# Altium footprint library Main board for stk  modify202003031.PcbLib: 70 footprints (part 1 of 5)
Each footprint in its own frame and in the unit in brackets; x right, y up, seen from the top. Pads: shape width x height; smd on the part's side, far side on the other; paste and mask are expansions set on the pad; w line width, h text height; cw(c..) or ccw(c..) is an arc to the next point about the centre after c.
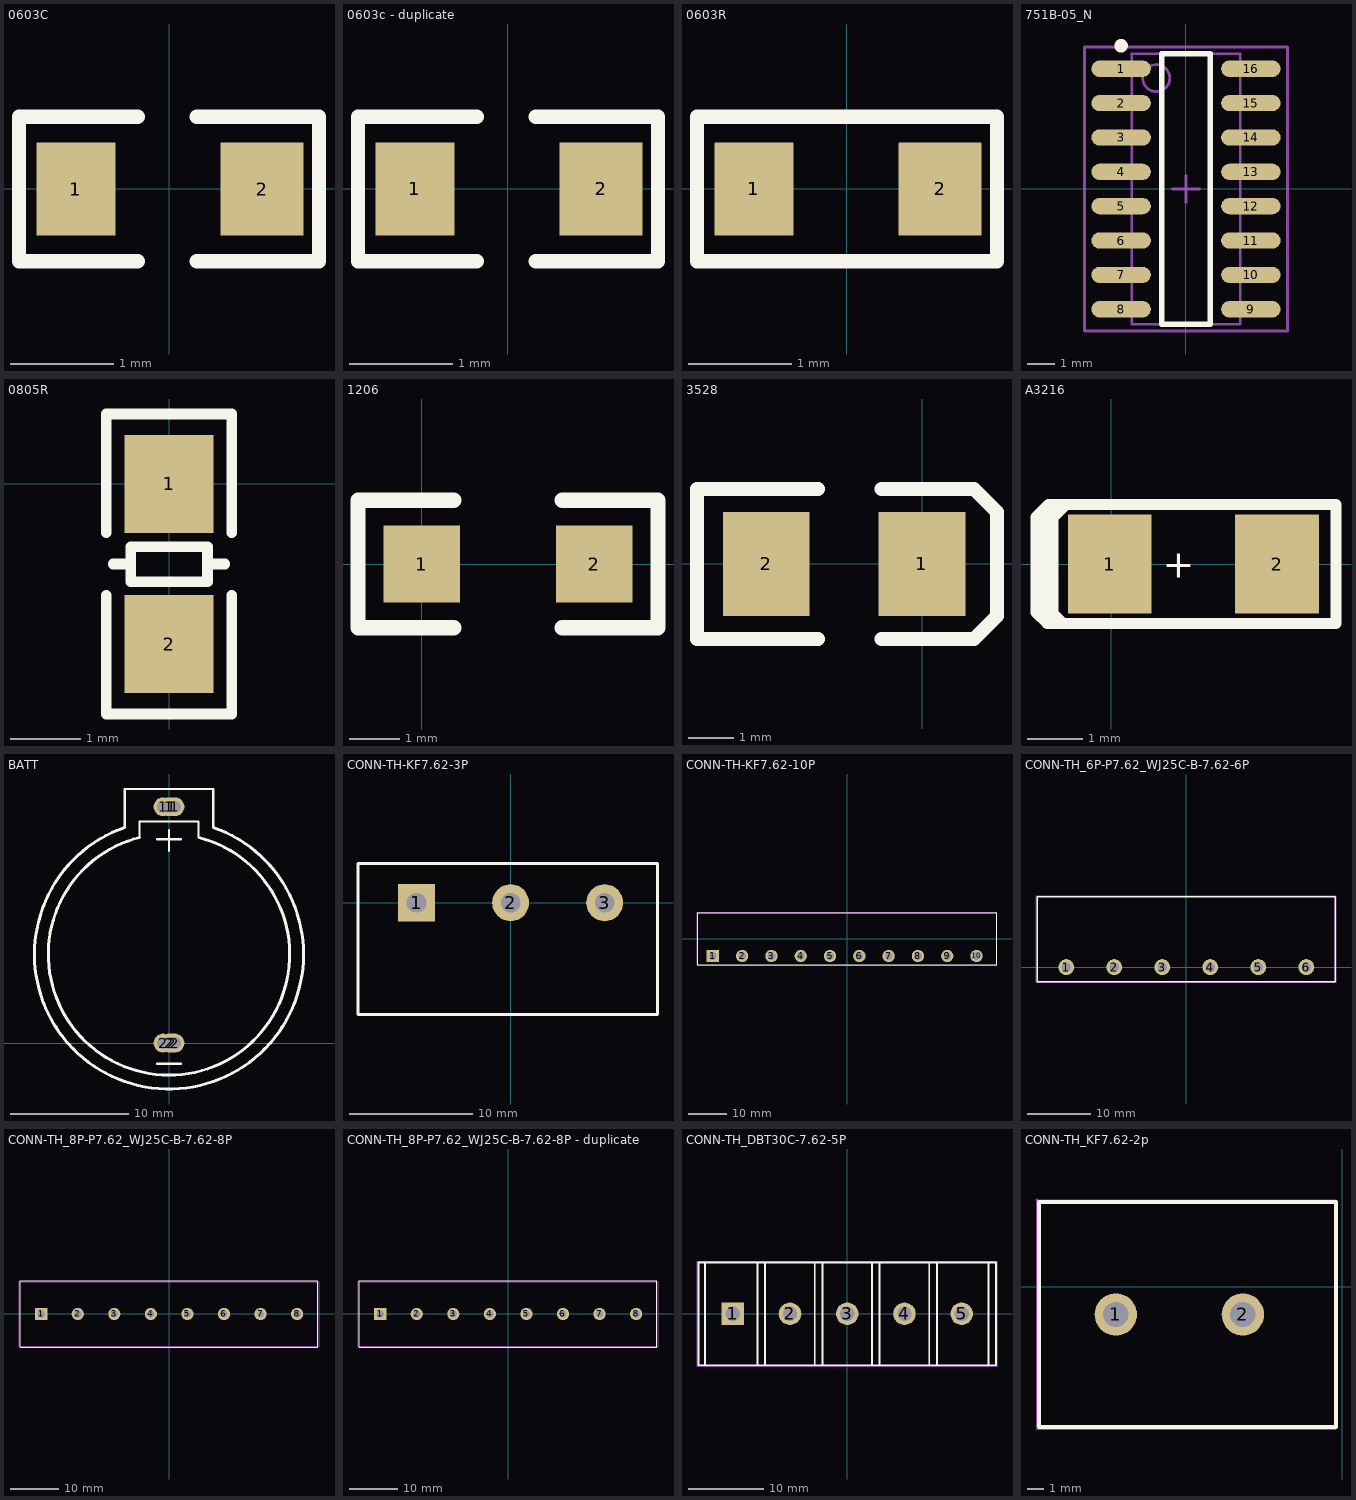
[diagram p0: the footprints below, top view; thin cyan lines are the x and y axes]

## 0603C [mm]
pads (2):
  rect 0.762x0.9 smd: 1(-0.9,0)
  rect 0.8x0.9 smd: 2(0.9,0)
Top Overlay:
  lines w0.14: -0.3,-0.7 -1.45,-0.7 -1.45,0.7 -0.3,0.7 ; 0.266,-0.7 1.45,-0.7 1.45,0.7 0.266,0.7
3D body "User Library-0603 SMD Capacitor.STEP": height 0.3, standoff 0, extent -0.8,-0.4 0.8,0.4

## 0603c - duplicate [mm]
pads (2):
  rect 0.762x0.9 smd: 1(-0.9,0)
  rect 0.8x0.9 smd: 2(0.9,0)
Top Overlay:
  lines w0.14: -0.3,-0.7 -1.45,-0.7 -1.45,0.7 -0.3,0.7 ; 0.266,-0.7 1.45,-0.7 1.45,0.7 0.266,0.7
3D body "User Library-0603 SMD Capacitor.STEP": height 0.3, standoff 0, extent -0.8,-0.4 0.8,0.4

## 0603R [mm]
pads (2):
  rect 0.762x0.9 smd: 1(-0.9,0)
  rect 0.8x0.9 smd: 2(0.9,0)
Top Overlay:
  lines w0.14: -1.45,-0.7 -1.45,0.7 1.45,0.7 1.45,-0.7 -1.45,-0.7
3D body "User Library-RES_1609-0603.STEP": height 0.56, standoff 0, extent -0.85,-0.4 0.85,0.4

## 751B-05_N [mm] "SOIC, 16-Leads, Body 9.9x3.9mm, Pitch 1.27mm, IPC Medium Density"
height 1.75
pads (16):
  oval 2.2x0.6 smd: 1(-2.4,4.445) 2(-2.4,3.175) 3(-2.4,1.905) 4(-2.4,0.635) 5(-2.4,-0.635) 6(-2.4,-1.905) 7(-2.4,-3.175) 8(-2.4,-4.445) 9(2.4,-4.445) 10(2.4,-3.175) 11(2.4,-1.905) 12(2.4,-0.635) 13(2.4,0.635) 14(2.4,1.905) 15(2.4,3.175) 16(2.4,4.445)
Top Overlay:
  circle w0.25: c-2.4,5.295 r0.125
  lines w0.2: -0.9,-5 -0.9,5 0.9,5 0.9,-5 -0.9,-5
Mechanical 13:
  circle w0.1: c-1.1,4.1 r0.5
  lines w0.1: -2,-5 -2,5 2,5 2,-5 -2,-5
Mechanical 15:
  lines w0.1: -0.5,0 0.5,0 ; 0,-0.5 0,0.5 ; -3.75,-5.25 -3.75,5.25 3.75,5.25 3.75,-5.25 -3.75,-5.25
3D body: height 1.75, standoff 0, extent -2,-5 2,5

## 0805R [mm]
pads (2):
  rect 1.27x1.4 smd: 1(0,0) 2(0,-2.286)
Top Overlay:
  lines w0.15: -0.9,-1.586 -0.9,-3.286 0.9,-3.286 0.9,-1.586 ; -0.9,-0.7 -0.9,1 0.9,1 0.9,-0.7 ; -0.8,-1.143 -0.55,-1.143 ; 0.55,-1.143 0.8,-1.143 ; -0.55,-1.4 0.55,-1.4 0.55,-0.9 -0.55,-0.9 -0.55,-1.4

## 1206 [mil]
pads (2):
  rect 60x60 smd: 1(0,0) 2(135,0)
Top Overlay:
  lines w12: 25,-50 -50,-50 -50,50 25,50 ; 110,-50 185,-50 185,50 110,50

## 3528 [mil]
pads (2):
  rect 75x90 smd: 1(0,0) 2(-135,0)
Top Overlay:
  lines w12: -90,-65 -195,-65 -195,65 -90,65 ; -35,-65 45,-65 65,-45 65,45 45,65 -35,65

## A3216 [mil]
pads (2):
  rect 59.06x70 smd: 1(-1,0) 2(117.11,0)
Top Overlay:
  lines w8: -46,-35 -46,35 ; -41,-25 -41,-34.94 -33.95,-42 -44.95,-42 -52.95,-34 -52.95,33 -43.95,42 -41,42 ; -41,21 -41,32.94 -31.95,42 ; -41,42 -41,-41 -40,-42 35,-42 84.68,-42 158.68,-42 158.68,41 158.68,42 83.68,42 35,42 -41,42
  text "+" at 36.42,-9.84 h19.68
3D body "User Library-cap_1206_0_95.step": height 37.4, standoff 0, extent -5,-32 120.98,30.99

## BATT [mm]
pads (9):
  round 1.6 hole 1: 1(-0.5,20) 1(0,20) 1(0.25,20) 1(0.5,20) 2(-0.5,0) 2(0,0) 2(0,0) 2(0.25,0) 2(0.5,0)
Top Overlay:
  lines w0.203: -3.75,18.25 -3.75,20.5 -3.75,21.5 3.75,21.5 3.75,20.5 3.75,18.25 ; -2.5,18.25 -2.5,17.4 -2.5,18.75 2.5,18.75 2.5,17.5 ; -1,-1.75 1,-1.75 ; -1,17.25 1,17.25 ; 0,16.25 0,18
  lines w0.254: -3.75,18.25 ccw(c0,7.5) 3.75,18.25 ; -2.5,17.4 ccw(c0,7.5) 2.536,17.391

## CONN-TH-KF7.62-3P [mm]
pads (3):
  rect 3x3 hole 1.6 paste+0 mask+0.051: 1(-7.62,0)
  round 3 hole 1.6 paste+0 mask+0.051: 2(0,0) 3(7.62,0)
Top Overlay:
  lines w0.254: -12.37,-9.065 -12.37,3.175 11.903,3.175 11.903,-9.065 -12.37,-9.065
Mechanical 15:
  region: 8.32,0 8.32,0.092 8.272,0.27 8.18,0.43 8.05,0.56 7.89,0.652 7.712,0.7 7.528,0.7 7.35,0.652 7.19,0.56 7.06,0.43 6.968,0.27 6.92,0.092 6.92,0 6.92,-0.092 6.968,-0.27 7.06,-0.43 7.19,-0.56 7.35,-0.652 7.528,-0.7 7.712,-0.7 7.89,-0.652 8.05,-0.56 8.18,-0.43 8.272,-0.27 8.32,-0.092
  region: 0.7,0 0.7,0.092 0.652,0.27 0.56,0.43 0.43,0.56 0.27,0.652 0.092,0.7 -0.092,0.7 -0.27,0.652 -0.43,0.56 -0.56,0.43 -0.652,0.27 -0.7,0.092 -0.7,0 -0.7,-0.092 -0.652,-0.27 -0.56,-0.43 -0.43,-0.56 -0.27,-0.652 -0.092,-0.7 0.092,-0.7 0.27,-0.652 0.43,-0.56 0.56,-0.43 0.652,-0.27 0.7,-0.092
  region: -6.92,0 -6.92,0.092 -6.968,0.27 -7.06,0.43 -7.19,0.56 -7.35,0.652 -7.528,0.7 -7.712,0.7 -7.89,0.652 -8.05,0.56 -8.18,0.43 -8.272,0.27 -8.32,0.092 -8.32,0 -8.32,-0.092 -8.272,-0.27 -8.18,-0.43 -8.05,-0.56 -7.89,-0.652 -7.712,-0.7 -7.528,-0.7 -7.35,-0.652 -7.19,-0.56 -7.06,-0.43 -6.968,-0.27 -6.92,-0.092
  lines w0.051: -12.37,-9.065 11.944,-9.065 11.944,3.189 -12.37,3.189 -12.37,-9.065

## CONN-TH-KF7.62-10P [mm]
pads (10):
  rect 3.21x3.2 hole 2 paste+0 mask+0.051: 1(-34.925,-4.445)
  round 3.2 hole 2 paste+0 mask+0.051: 2(-27.305,-4.445) 3(-19.685,-4.445) 4(-12.065,-4.445) 5(-4.445,-4.445) 6(3.175,-4.445) 7(10.795,-4.445) 8(18.415,-4.445) 9(26.035,-4.445) 10(33.655,-4.445)
Top Overlay:
  lines w0.254: -38.85,-6.75 -38.85,6.75 38.85,6.75 38.85,-6.75 -38.85,-6.75
Mechanical 15:
  drawing of 15 lines, arcs and shapes, not listed

## CONN-TH_6P-P7.62_WJ25C-B-7.62-6P [mil]
pads (6):
  round 100 hole 60 paste+0 mask+2: 1(-750.49,0) 2(-450.29,0) 3(-150.1,0) 4(150.1,0) 5(450.3,0) 6(750.49,0)
Top Overlay:
  lines w10: -932.08,-90.75 -932.08,440.75 -269.68,440.75 30.52,440.75 330.71,440.75 931.11,440.75 931.11,-90.75 330.71,-90.75 30.52,-90.75 -269.68,-90.75 -932.08,-90.75
Mechanical 15:
  drawing of 11 lines, arcs and shapes, not listed

## CONN-TH_8P-P7.62_WJ25C-B-7.62-8P [mil]
pads (8):
  rect 100x100 hole 60 paste+0 mask+2: 1(-1050,0)
  round 100 hole 60 paste+0 mask+2: 2(-750,0) 3(-450,0) 4(-150,0) 5(150,0) 6(450,0) 7(750,0) 8(1050,0)
Top Overlay:
  lines w10: -1219.68,-271.65 -1219.68,271.65 1221.26,271.65 1221.26,-271.65 -1219.68,-271.65
Mechanical 15:
  region: -1227.17,-265.75 -1227.17,-264.77 -1228.55,-263.39 -1230.5,-263.39 -1231.89,-264.77 -1231.89,-265.75 -1231.89,-266.73 -1230.5,-268.11 -1228.55,-268.11 -1227.17,-266.73
  region: 428.35,-13.78 428.35,13.78 471.65,13.78 471.65,-13.78
  region: 128.35,-13.78 128.35,13.78 171.66,13.78 171.66,-13.78
  region: -471.65,-13.78 -471.65,13.78 -428.35,13.78 -428.35,-13.78
  region: -1071.65,13.78 -1028.35,13.78 -1028.35,-13.78 -1071.65,-13.78
  region: -771.65,-13.78 -771.65,13.78 -728.35,13.78 -728.35,-13.78
  region: -171.65,-13.78 -171.65,13.78 -128.34,13.78 -128.34,-13.78
  region: 728.35,-13.78 728.35,13.78 771.65,13.78 771.65,-13.78
  region: 1028.35,-13.78 1028.35,13.78 1071.65,13.78 1071.65,-13.78
  lines w2: -1229.53,-265.75 1229.53,-265.75 1229.53,265.75 -1229.53,265.75 -1229.53,-265.75

## CONN-TH_8P-P7.62_WJ25C-B-7.62-8P - duplicate [mil]
pads (8):
  rect 100x100 hole 60 paste+0 mask+2: 1(-1050,0)
  round 100 hole 60 paste+0 mask+2: 2(-750,0) 3(-450,0) 4(-150,0) 5(150,0) 6(450,0) 7(750,0) 8(1050,0)
Top Overlay:
  lines w10: -1219.68,-271.65 -1219.68,271.65 1221.26,271.65 1221.26,-271.65 -1219.68,-271.65
Mechanical 15:
  region: -1227.17,-265.75 -1227.17,-264.77 -1228.55,-263.39 -1230.5,-263.39 -1231.89,-264.77 -1231.89,-265.75 -1231.89,-266.73 -1230.5,-268.11 -1228.55,-268.11 -1227.17,-266.73
  region: 428.35,-13.78 428.35,13.78 471.65,13.78 471.65,-13.78
  region: 128.35,-13.78 128.35,13.78 171.66,13.78 171.66,-13.78
  region: -471.65,-13.78 -471.65,13.78 -428.35,13.78 -428.35,-13.78
  region: -1071.65,13.78 -1028.35,13.78 -1028.35,-13.78 -1071.65,-13.78
  region: -771.65,-13.78 -771.65,13.78 -728.35,13.78 -728.35,-13.78
  region: -171.65,-13.78 -171.65,13.78 -128.34,13.78 -128.34,-13.78
  region: 728.35,-13.78 728.35,13.78 771.65,13.78 771.65,-13.78
  region: 1028.35,-13.78 1028.35,13.78 1071.65,13.78 1071.65,-13.78
  lines w2: -1229.53,-265.75 1229.53,-265.75 1229.53,265.75 -1229.53,265.75 -1229.53,-265.75

## CONN-TH_DBT30C-7.62-5P [mm]
pads (5):
  rect 3x3 hole 1.9 paste+0 mask+0.051: 1(-15.24,0)
  round 3 hole 1.9 paste+0 mask+0.051: 2(-7.62,0) 3(0,0) 4(7.62,0) 5(15.24,0)
Top Overlay:
  lines w0.254: 19.8,-6.85 -19.8,-6.85 -19.8,6.85 19.8,6.85 ; -19.812,-6.858 -19.812,6.858 -18.923,6.858 -18.923,-6.858 -19.812,-6.858 ; -11.938,-6.858 -11.938,6.858 -10.922,6.858 -10.922,-6.858 -11.938,-6.858 ; -4.318,-6.858 -4.318,6.858 -3.302,6.858 -3.302,-6.858 -4.318,-6.858 ; 3.302,-6.858 3.302,6.858 4.318,6.858 4.318,-6.858 3.302,-6.858 ; 10.922,-6.858 10.922,6.858 11.938,6.858 11.938,-6.858 10.922,-6.858 ; 18.796,-6.858 18.796,6.858 19.812,6.858 19.812,-6.858 18.796,-6.858
Mechanical 15:
  region: -14.39,0 -14.39,0.112 -14.448,0.328 -14.56,0.522 -14.718,0.68 -14.912,0.792 -15.128,0.85 -15.352,0.85 -15.568,0.792 -15.762,0.68 -15.92,0.522 -16.032,0.328 -16.09,0.112 -16.09,0 -16.09,-0.112 -16.032,-0.328 -15.92,-0.522 -15.762,-0.68 -15.568,-0.792 -15.352,-0.85 -15.128,-0.85 -14.912,-0.792 -14.718,-0.68 -14.56,-0.522 -14.448,-0.328 -14.39,-0.112
  region: -6.77,0 -6.77,0.112 -6.828,0.328 -6.94,0.522 -7.098,0.68 -7.292,0.792 -7.508,0.85 -7.732,0.85 -7.948,0.792 -8.142,0.68 -8.3,0.522 -8.412,0.328 -8.47,0.112 -8.47,0 -8.47,-0.112 -8.412,-0.328 -8.3,-0.522 -8.142,-0.68 -7.948,-0.792 -7.732,-0.85 -7.508,-0.85 -7.292,-0.792 -7.098,-0.68 -6.94,-0.522 -6.828,-0.328 -6.77,-0.112
  region: 0.85,0 0.85,0.112 0.792,0.328 0.68,0.522 0.522,0.68 0.328,0.792 0.112,0.85 -0.112,0.85 -0.328,0.792 -0.522,0.68 -0.68,0.522 -0.792,0.328 -0.85,0.112 -0.85,0 -0.85,-0.112 -0.792,-0.328 -0.68,-0.522 -0.522,-0.68 -0.328,-0.792 -0.112,-0.85 0.112,-0.85 0.328,-0.792 0.522,-0.68 0.68,-0.522 0.792,-0.328 0.85,-0.112
  region: 8.47,0 8.47,0.112 8.412,0.328 8.3,0.522 8.142,0.68 7.948,0.792 7.732,0.85 7.508,0.85 7.292,0.792 7.098,0.68 6.94,0.522 6.828,0.328 6.77,0.112 6.77,0 6.77,-0.112 6.828,-0.328 6.94,-0.522 7.098,-0.68 7.292,-0.792 7.508,-0.85 7.732,-0.85 7.948,-0.792 8.142,-0.68 8.3,-0.522 8.412,-0.328 8.47,-0.112
  region: 16.09,0 16.09,0.112 16.032,0.328 15.92,0.522 15.762,0.68 15.568,0.792 15.352,0.85 15.128,0.85 14.912,0.792 14.718,0.68 14.56,0.522 14.448,0.328 14.39,0.112 14.39,0 14.39,-0.112 14.448,-0.328 14.56,-0.522 14.718,-0.68 14.912,-0.792 15.128,-0.85 15.352,-0.85 15.568,-0.792 15.762,-0.68 15.92,-0.522 16.032,-0.328 16.09,-0.112
  region: -19.879,-6.985 -19.879,-6.96 -19.914,-6.925 -19.964,-6.925 -19.999,-6.96 -19.999,-6.985 -19.999,-7.01 -19.964,-7.045 -19.914,-7.045 -19.879,-7.01
  lines w0.051: -19.939,-6.985 -19.939,6.985 19.939,6.985 19.939,-6.985 -19.939,-6.985

## CONN-TH_KF7.62-2p [mil]
pads (2):
  round 100 hole 60 paste+0 mask+2: 1(-535.29,-65) 2(-235.09,-65)
Top Overlay:
  lines w10: -716.4,-330.75 -716.4,200.75 -15,200.75 -15,-330.75 -716.4,-330.75
Mechanical 15:
  region: -719.03,205.75 -719.03,206.73 -720.42,208.11 -722.38,208.11 -723.76,206.73 -723.76,205.75 -723.76,204.77 -722.38,203.39 -720.42,203.39 -719.03,204.77
  region: -209.03,-65 -209.03,-61.57 -210.81,-54.94 -214.24,-49 -219.09,-44.14 -225.03,-40.71 -231.66,-38.94 -238.52,-38.94 -245.15,-40.71 -251.1,-44.14 -255.95,-49 -259.38,-54.94 -261.16,-61.57 -261.16,-65 -261.16,-68.43 -259.38,-75.06 -255.95,-81 -251.1,-85.85 -245.15,-89.28 -238.52,-91.06 -231.66,-91.06 -225.03,-89.28 -219.09,-85.85 -214.24,-81 -210.81,-75.06 -209.03,-68.43
  region: -509.23,-65 -509.23,-61.57 -511.01,-54.94 -514.44,-49 -519.29,-44.14 -525.23,-40.71 -531.86,-38.94 -538.72,-38.94 -545.35,-40.71 -551.3,-44.14 -556.15,-49 -559.58,-54.94 -561.36,-61.57 -561.36,-65 -561.36,-68.43 -559.58,-75.06 -556.15,-81 -551.3,-85.85 -545.35,-89.28 -538.72,-91.06 -531.86,-91.06 -525.23,-89.28 -519.29,-85.85 -514.44,-81 -511.01,-75.06 -509.23,-68.43
  lines w2: -721.4,-335.75 -721.4,205.75 -15,205.75 -15,-335.75 -721.4,-335.75